# Altium schematic symbol library M80-5000000M5-02-PM3-00-000.SchLib: 2 symbols
Pins are listed as number, name and electrical type; pins without a type are passive.

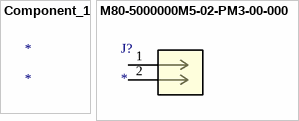
[diagram p0: symbols Component_1 to M80-5000000M5-02-PM3-00-000]

## Component_1
designator *

## M80-5000000M5-02-PM3-00-000
designator J?
No Description Available; Mfr_Name: Harwin; RefDes: RefDes; Type: Type
footprint CONN2_M80-5000000M5-02-PM3-00-000_HRW
pins: 1, 2